# Altium schematic symbol library EM411-202401-RMC001-000-20240213-T10.SchLib: 60 symbols
Pins are listed as number, name and electrical type; pins without a type are passive.

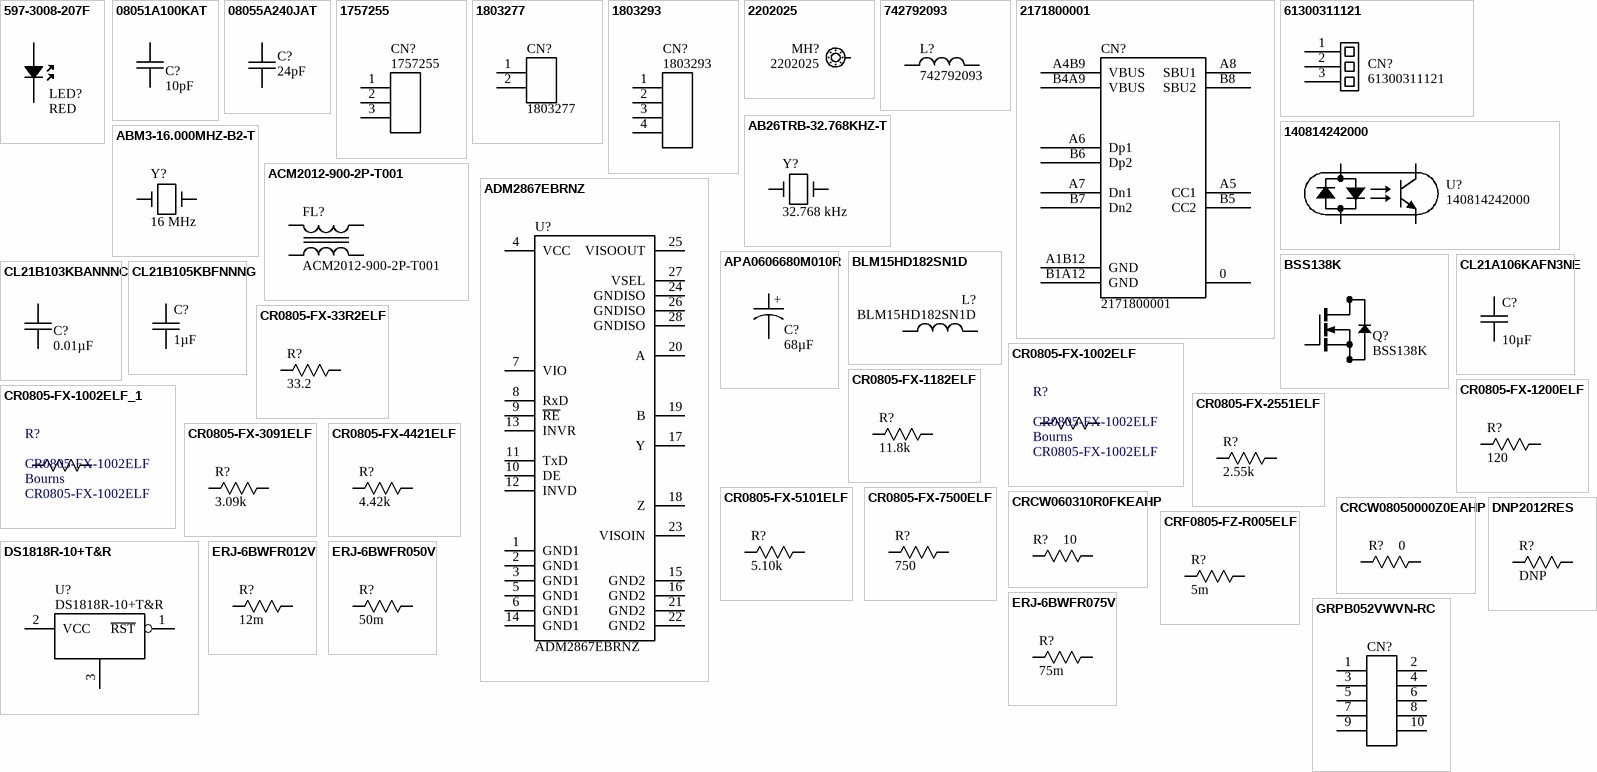
[diagram p0: symbols 597-3008-207F to GRPB052VWVN-RC]

## 597-3008-207F
designator LED?, comment RED
Micro LED, 597 Series, Red, SMD LED; PartNumber: 597-3008-207F; Manufacturer: Dialight Corporation
footprint LEDM3228X19N (Molded LED, 2-Leads, Body 3.20x2.80mm, IPC Medium Density)
pins: A, K

## 08051A100KAT
designator C?, comment 10pF
10pF/100V/±10% C0G (NP0) Ceramic Chip Capacitor; Manufacturer: Kyocera/AVX; PartNumber: 08051A100KAT
footprint CAPC2012X09N (Chip Capacitor, 2-Leads, Body 2.00x1.25mm, IPC Medium Density)
pins: 1, 2
1 alternate drawing of the same symbol

## 08055A240JAT
designator C?, comment 24pF
24pF/50V/±5% C0G (NP0) Ceramic Chip Capacitor; Manufacturer: Kyocera/AVX; PartNumber: 08055A240JAT
footprint CAPC2012X09N (Chip Capacitor, 2-Leads, Body 2.00x1.25mm, IPC Medium Density)
pins: 1, 2
1 alternate drawing of the same symbol

## 1757255
designator CN?
MSTBA 2,5/3-G-5,08 Pluggable Terminal Block 3 Pos 5.08mm pitch Through Hole Header; Manufacturer: Phoenix Contact; PartNumber: 1757255
footprint PHOENIX_1757255 (PCB header - MSTBA 2,5/ 3-G-5,08)
pins: 1, 2, 3

## 1803277
designator CN?
MC 1,5/2G-3,81 Pluggable Terminal Block 2 Pos 3.81mm pitch Through Hole Header; Manufacturer: Phoenix Contact; PartNumber: 1803277
footprint PHOENIX_1803277 (PCB Header - MC 1,5/ 2-G-3,81)
pins: 1, 2

## 1803293
designator CN?
MC 1,5/4G-3,81 Pluggable Terminal Block 4 Pos 3.81mm pitch Through Hole Header; Manufacturer: Phoenix Contact; PartNumber: 1803293
footprint PHOENIX_1803293 (Footprint not found)
pins: 1, 2, 3, 4
1 alternate drawing of the same symbol

## 2202025
designator MH?
UM-BASIC/PRO PE CONTACT L1; Manufacturer: Phoenix Contact; PartNumber: 2202025
footprint PHOENIX_2202025 (PE Contact Level 1)
pins: 0

## 742792093
designator L?
Multilayer SMD Ferrite; Manufacturer: Wurth Elektronik; PartNumber: 742792093
footprint INDC2012X11N (Chip Inductor, 2-Leads, Body 2.00x1.20mm, IPC Medium Density)
pins: 1, 2

## 2171800001
designator CN?
USB-C Receptacle, Right-Angle, Surface Mount, Top Mount, Center Height 5.9mm, Single Row, 16 Circuits; Manufacturer: Molex; PartNumber: 2171800001
footprint MOLEX_2171800001
pins: 0, A1B12 GND, A4B9 VBUS, A5 CC1, A6 Dp1, A7 Dn1, A8 SBU1, B1A12 GND, B4A9 VBUS, B5 CC2, B6 Dp2, B7 Dn2, B8 SBU2

## 61300311121
designator CN?
Connector Header Through Hole 3 position 0.100" (2.54mm); Manufacturer: Wurth Elektronik; PartNumber: 61300311121
footprint WURTH_61300311121
pins: 1, 2, 3
3 alternate drawings of the same symbol

## 140814242000
designator U?
WL-OCPT Optocoupler Phototransistor; Manufacturer: Wurth Elektronik; PartNumber: 140814242000
footprint WURTH_140814242000 (Optocoupler Phototransistor, body 6.5x4.58mm)
pins: 1 A, 2 K, 3 E, 4 C

## AB26TRB-32.768KHZ-T
designator Y?, comment 32.768 kHz
32.768 kHz Radial Can Crystal; PartNumber: AB26TRB-32.768KHZ-T; Manufacturer: Abracon Corporation
footprint ABRACON_AB26TRB (Low Frequency Reflowable Cylindrical Watch Crystal)
pins: 1, 2

## ABM3-16.000MHZ-B2-T
designator Y?, comment 16 MHz
16 MHz Miniature Ceramic SMD Crystal; PartNumber: ABM3-16.000MHZ-B2-T; Manufacturer: Abracon Corporation
footprint ABRACON_ABM3 (Ceramic SMD Crystal)
pins: 1, 2

## ACM2012-900-2P-T001
designator FL?
Common Mode Filter; Manufacturer: TDK; PartNumber: ACM2012-900-2P-T001
footprint LITTELFUSE_ACM2012-900-2P-T001 (Common Mode Choke)
pins: 1, 2, 3, 4

## ADM2867EBRNZ
designator U?
5.7 kV RMS Signal and Power Isolated RS-485 Transceiver with ±15 kV IEC ESD; Manufacturer: Analog Devices, Inc.; PartNumber: ADM2867EBRNZ
footprint SOP65P1030X265-28N (SOP, 28-Leads, Body 10.30x7.50mm, Pitch 0.65mm, IPC Medium Density)
pins: 1 GND1 (power), 2 GND1 (power), 3 GND1 (power), 4 VCC, 5 GND1 (power), 6 GND1 (power), 7 VIO, 8 RxD, 9 ~{RE}, 10 DE, 11 TxD, 12 INVD, 13 INVR, 14 GND1 (power), 15 GND2, 16 GND2, 17 Y, 18 Z, 19 B, 20 A, 21 GND2, 22 GND2, 23 VISOIN, 24 GNDISO, 25 VISOOUT, 26 GNDISO, 27 VSEL, 28 GNDISO

## APA0606680M010R
designator C?, comment 68µF
68µF/10V/20% SMD Aluminum Conductive Polymer Electrolytic Capacitor; Manufacturer: AVX; PartNumber: APA0606680M010R
footprint CAPAE7366X60M (Aluminum Electrolytic Capacitor, Body 6.60x6.60x6.00mm, IPC Low Density)
pins: 1, 2
text: +

## BLM15HD182SN1D
designator L?
GHz Noise Suppression Chip Ferrite Bead; Manufacturer: Murata Electronics; PartNumber: BLM15HD182SN1D
footprint INDC1005X06N (Chip Inductor, 2-Leads, Body 1.00x0.50mm, IPC Medium Density)
pins: 1, 2

## BSS138K
designator Q?
N-Channel Logic Level Enhancement Mode Field Effect Transistor; Manufacturer: Onsemi; PartNumber: BSS138K
footprint SOT95P237X111-3N (SOT23, 3-Leads, Body 2.92x2.37mm, Pitch 0.95mm, IPC Medium Density)
pins: 1 G "Gate", 2 S "Source", 3 D "Drain"

## CL21A106KAFN3NE
designator C?, comment 10µF
10µF/25V 10% X5R Multi-Layer Ceramic Capacitor; Manufacturer: Samsung Electro-Mechanics; PartNumber: CL21A106KAFN3NE
footprint CAPC2012X14N (Chip Capacitor, 2-Leads, Body 2.00x1.25mm, IPC Medium Density)
pins: 1, 2

## CL21B103KBANNNC
designator C?, comment 0.01µF
0.01µF/50V/±10% X7R Ceramic Chip Capacitor; Manufacturer: Samsung Electro-Mechanics; PartNumber: CL21B103KBANNNC
footprint CAPC2012X08N (Chip Capacitor, 2-Leads, Body 2.00x1.25mm, IPC Medium Density)
pins: 1, 2
1 alternate drawing of the same symbol

## CL21B105KBFNNNG
designator C?, comment 1µF
1µF/50V/±10% X7R Ceramic Chip Capacitor; Manufacturer: Samsung Electro-Mechanics; PartNumber: CL21B105KBFNNNG
footprint CAPC2012X14N (Chip Capacitor, 2-Leads, Body 2.00x1.25mm, IPC Medium Density)
pins: 1, 2
1 alternate drawing of the same symbol

## CR0805-FX-33R2ELF
designator R?, comment 33.2
33.2, 1%, 0.125W Thick Film Chip Resistor; Manufacturer: Bourns; PartNumber: CR0805-FX-33R2ELF
footprint RESC2012X06N (Chip Resistor, 2-Leads, Body 2.00x1.25mm, IPC Medium Density)
pins: 1, 2

## CR0805-FX-1002ELF
designator R?  Manufacturer: Bourns
10k , 1% , 0,125W Thick Film Chip Resistor; PartNumber: CR0805-FX-1002ELF
pins: 1, 2

## CR0805-FX-1002ELF_1
designator R?, comment CR0805-FX-1002ELF  Manufacturer: Bourns
10k , 1% , 0,125W Thick Film Chip Resistor; PartNumber: CR0805-FX-1002ELF
pins: 1, 2

## CR0805-FX-1182ELF
designator R?, comment 11.8k
11.8k, 1%, 0.125W Thick Film Chip Resistor; Manufacturer: Bourns; PartNumber: CR0805-FX-1182ELF
footprint RESC2012X06N (Chip Resistor, 2-Leads, Body 2.00x1.25mm, IPC Medium Density)
pins: 1, 2

## CR0805-FX-1200ELF
designator R?, comment 120
120, 1%, 0.125W Thick Film Chip Resistor; Manufacturer: Bourns; PartNumber: CR0805-FX-1200ELF
footprint RESC2012X06N (Chip Resistor, 2-Leads, Body 2.00x1.25mm, IPC Medium Density)
pins: 1, 2

## CR0805-FX-2551ELF
designator R?, comment 2.55k
2.55k, 1%, 0.125W Thick Film Chip Resistor; Manufacturer: Bourns; PartNumber: CR0805-FX-2551ELF
footprint RESC2012X06N (Chip Resistor, 2-Leads, Body 2.00x1.25mm, IPC Medium Density)
pins: 1, 2

## CR0805-FX-3091ELF
designator R?, comment 3.09k
3.09k, 1%, 0.125W Thick Film Chip Resistor; Manufacturer: Bourns; PartNumber: CR0805-FX-3091ELF
footprint RESC2012X06N (Chip Resistor, 2-Leads, Body 2.00x1.25mm, IPC Medium Density)
pins: 1, 2

## CR0805-FX-4421ELF
designator R?, comment 4.42k
4.42k, 1%, 0.125W Thick Film Chip Resistor; Manufacturer: Bourns; PartNumber: CR0805-FX-4421ELF
footprint RESC2012X06N (Chip Resistor, 2-Leads, Body 2.00x1.25mm, IPC Medium Density)
pins: 1, 2

## CR0805-FX-5101ELF
designator R?, comment 5.10k
5.10k, 1%, 0.125W Thick Film Chip Resistor; Manufacturer: Bourns; PartNumber: CR0805-FX-4421ELF
footprint RESC2012X06N (Chip Resistor, 2-Leads, Body 2.00x1.25mm, IPC Medium Density)
pins: 1, 2

## CR0805-FX-7500ELF
designator R?, comment 750
750, 1%, 0.125W Thick Film Chip Resistor; Manufacturer: Bourns; PartNumber: CR0805-FX-7500ELF
footprint RESC2012X06N (Chip Resistor, 2-Leads, Body 2.00x1.25mm, IPC Medium Density)
pins: 1, 2

## CRCW060310R0FKEAHP
designator R?, comment 10
10, 1%, 0.33W Pulse Proof, High Power Thick Film Chip Resistor; Manufacturer: Vishay Intertechnology; PartNumber: CRCW060310R0FKEAHP
footprint RESC1608X06N (Chip Resistor, 2-Leads, Body 1.60x0.85mm, IPC Medium Density)
pins: 1, 2

## CRCW08050000Z0EAHP
designator R?, comment 0
0, Jumper, Pulse Proof, High Power Thick Film Chip Resistor; Manufacturer: Vishay Intertechnology; PartNumber: CRCW08050000Z0EAHP
footprint VISHAY_RESC2012X06N (Chip Resistor, 2-Leads, Body 2.00x1.25mm, IPC Medium Density)
pins: 1, 2

## CRF0805-FZ-R005ELF
designator R?, comment 5m
5m, 1%, 0.5W Thick Film Chip Resistor; Manufacturer: Bourns; PartNumber: CRF0805-FZ-R005ELF
footprint RESC2012X08N (Chip Resistor, 2-Leads, Body 2.00x1.25mm, IPC Medium Density)
footprint RESC2012X08N (Chip Resistor, 2-Leads, Body 2.00x1.25mm, IPC Medium Density)
pins: 1, 2

## DNP2012RES
designator R?, comment DNP  (no BOM)
Placeholder for 2012 Resistor; Manufacturer: Confederation College; PartNumber: DNP2012RES
footprint RESC2012X06N (Chip Resistor, 2-Leads, Body 2.00x1.25mm, IPC Medium Density)
pins: 1, 2

## DS1818R-10+T&R
designator U?
3.3 V EconoReset with Pushbutton; Manufacturer: Maxim Integrated; PartNumber: DS1818R-10+T&R
footprint SOT95P237X112-3N (SOT23, 3-Leads, Body 2.92x2.37mm, Pitch 0.95mm, IPC Medium Density)
pins: 1 ~{RST} (oc), 2 VCC (power), 3 GND (power)

## ERJ-6BWFR012V
designator R?, comment 12m
12m, 1%, 0.5W Thick Film Chip Resistor; Manufacturer: Panasonic; PartNumber: ERJ-6BWFR012V
footprint RESC2012X08N (Chip Resistor, 2-Leads, Body 2.00x1.25mm, IPC Medium Density)
pins: 1, 2

## ERJ-6BWFR050V
designator R?, comment 50m
50m, 1%, 0.5W Thick Film Chip Resistor; Manufacturer: Panasonic; PartNumber: ERJ-6BWFR050V
footprint RESC2012X08N (Chip Resistor, 2-Leads, Body 2.00x1.25mm, IPC Medium Density)
pins: 1, 2

## ERJ-6BWFR075V
designator R?, comment 75m
75m, 1%, 0.5W Thick Film Chip Resistor; Manufacturer: Panasonic; PartNumber: ERJ-6BWFR075V
footprint RESC2012X08N (Chip Resistor, 2-Leads, Body 2.00x1.25mm, IPC Medium Density)
pins: 1, 2

## GRPB052VWVN-RC
designator CN?  (value not drawn)
.050"[1.27mm] Contact Centers, Male Header; Manufacturer: Sullins Connector Solutions, Inc.; PartNumber: GRPB052VWVN-RC
footprint SULLINS_GRPB052VWVN-RC (CONN HEADER VERT 10POS 1.27MM)
pins: 1, 2, 3, 4, 5, 6, 7, 8, 9, 10

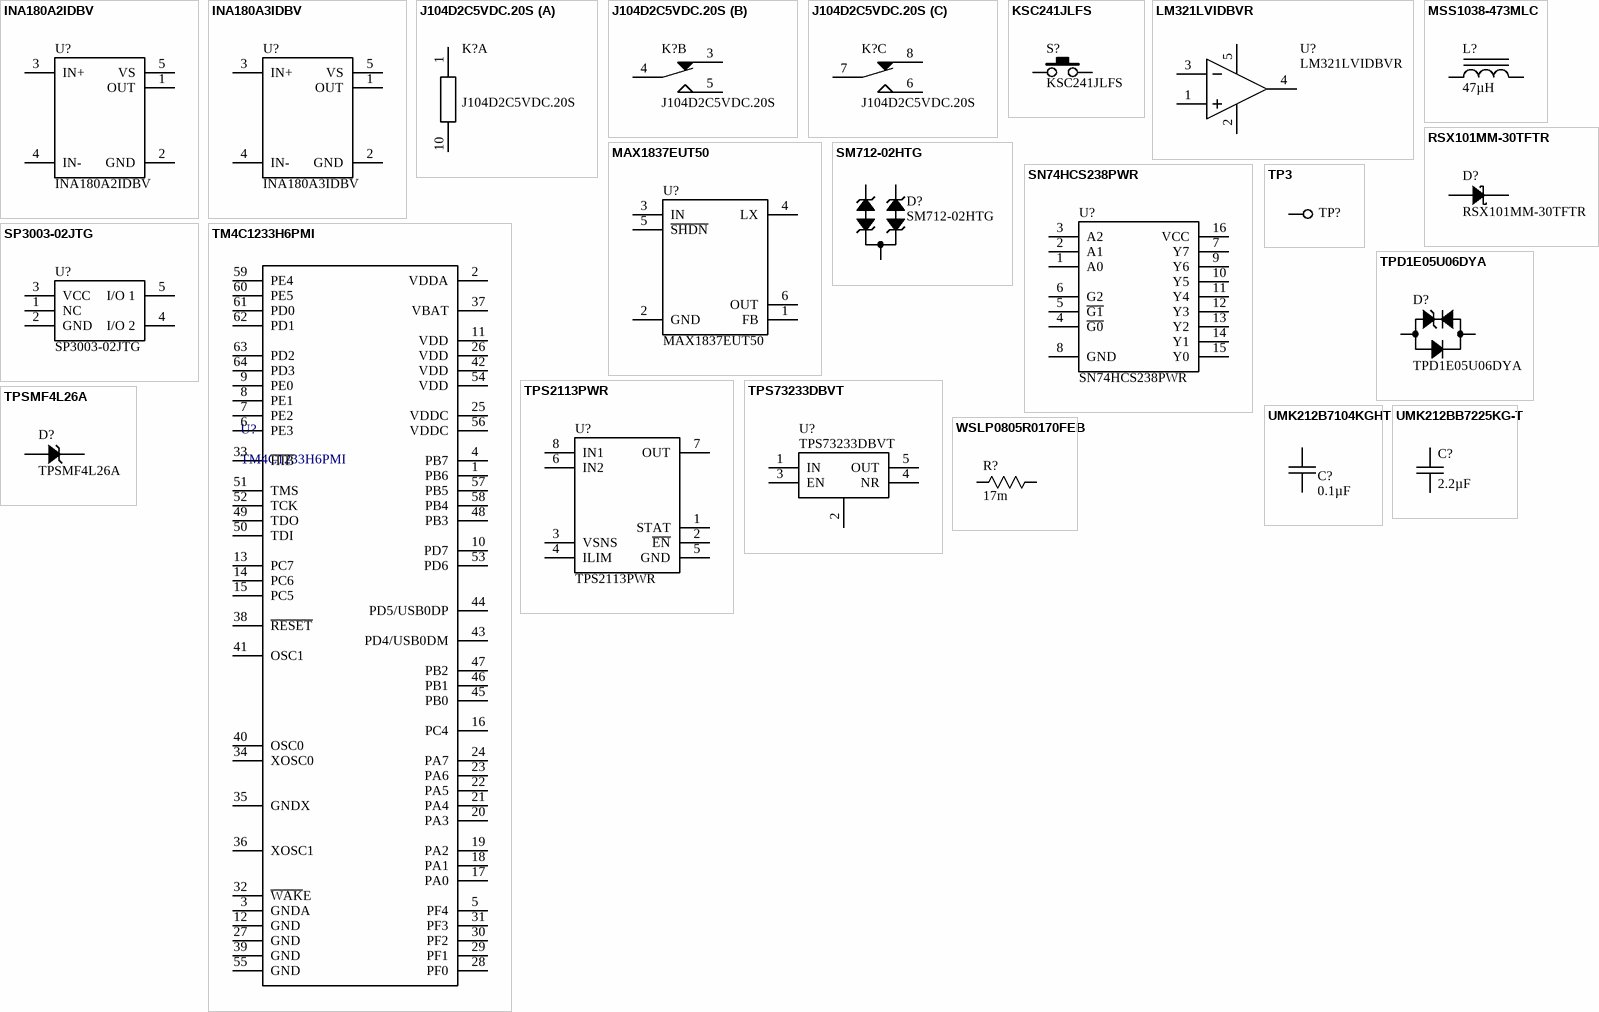
[diagram p1: symbols INA180A2IDBV to WSLP0805R0170FEB]

## INA180A2IDBV
designator U?
Voltage Output, Current-Sense Amplifiers, Gain 50; Manufacturer: Texas Instruments; PartNumber: INA180A2IDBV
footprint SOT95P280X145-5N (SOT23, 5-Leads, Body 2.90x2.80mm, Pitch 0.95mm, IPC Medium Density)
pins: 1 OUT, 2 GND, 3 IN+, 4 IN-, 5 VS

## INA180A3IDBV
designator U?
Voltage Output, Current-Sense Amplifiers, Gain 100; Manufacturer: Texas Instruments; PartNumber: INA180A3IDBV
footprint SOT95P280X145-5N (SOT23, 5-Leads, Body 2.90x2.80mm, Pitch 0.95mm, IPC Medium Density)
pins: 1 OUT, 2 GND, 3 IN+, 4 IN-, 5 VS

## J104D2C5VDC.20S
designator K?
J104D Series Dual Form C 5V, 2A PCB Relay; Manufacturer: Circuit Interrupter Technology; PartNumber: J104D2C5VDC.20S
footprint CIT_J104D (Dual Form C Signal Relay)
part A pins: 1, 10
part B pins: 3, 4, 5
part C pins: 6, 7, 8
1 alternate drawing of the same symbol

## KSC241JLFS
designator S?
KSC Series Sealed Tact Switch for SMT; Manufacturer: C&K Components; PartNumber: KSC241JLFS
footprint CK_KSC241JLFS (KSC2 Series Sealed Tact Switch for SMT)
pins: 1, 2

## LM321LVIDBVR
designator U?
Industry Standard, Low Voltage Operational Amplifier; Manufacturer: Texas Instruments; PartNumber: LM321LVIDBVR
footprint SOT95P280X145-5N (SOT23, 5-Leads, Body 2.90x2.80mm, Pitch 0.95mm, IPC Medium Density)
pins: 1 IN+, 2 V- (power), 3 IN-, 4 OUT, 5 V+ (power)

## MAX1837EUT50
designator U?
24V Internal Switch, 100% Duty Cycle, Step-Down Converter; Manufacturer: Maxim Integrated; PartNumber: MAX1837EUT50
footprint SOT95P280X145-6N (SOT23, 6-Leads, Body 2.90x2.80mm, Pitch 0.95mm, IPC Medium Density)
pins: 1 FB, 2 GND, 3 IN, 4 LX, 5 ~{SHDN}, 6 OUT

## MSS1038-473MLC
designator L?, comment 47µH
47µH Shielded Power Inductor; PartNumber: MSS1038-473MLC; Manufacturer: Coilcraft
footprint INDP102102X40N (Precision Wire Wound Inductor, 2-Leads, Body 10.20x10.15mm, IPC Medium Density)
pins: 1, 2

## RSX101MM-30TFTR
designator D?
Schottky Barrier Diode; Manufacturer: Rohm Semiconductor; PartNumber: RSX101MM-30TFTR
footprint SODFL350X90-2N (SODFL, 2-Leads, Body 1.60x3.50mm, IPC Medium Density)
pins: A, K

## SM712-02HTG
designator D?
SM712 Series 600W Asymmetrical TVS Diode Array; Manufacturer: Littelfuse; PartNumber: SM712-02HTG
footprint SOT95P237X112-3N (SOT23, 3-Leads, Body 2.92x2.37mm, Pitch 0.95mm, IPC Medium Density)
pins: 1, 2, 3

## SN74HCS238PWR
designator U?
3-to 8-Line Decoder/Demultiplexer with Schmitt-Trigger Inputs; Manufacturer: Texas Instruments; PartNumber: SN74HCS238PWR
footprint TSOP65P640X120-16N (TSOP, 16-Leads, Body 5.00x4.40mm, Pitch 0.65mm, IPC Medium Density)
pins: 1 A0, 2 A1, 3 A2, 4 ~{G0}, 5 ~{G1}, 6 G2, 7 Y7, 8 GND, 9 Y6, 10 Y5, 11 Y4, 12 Y3, 13 Y2, 14 Y1, 15 Y0, 16 VCC

## SP3003-02JTG
designator U?
TVS Diode Array - Low Capacitance ESD Protection; Manufacturer: Littelfuse; PartNumber: SP3003-02JTG
footprint SOT65P220X90-5N (SOT,0.65mm pitch;5 pin, 1.25mm W X 2.05mm L X 0.95mm H body)
footprint SOT65P220X110-5N (SOT23, 5-Leads, Body 2.05x2.20mm, Pitch 0.65mm, IPC Medium Density)
pins: 1 NC, 2 GND, 3 VCC, 4 I/O 2, 5 I/O 1

## TM4C1233H6PMI
designator U?
Microcontroller; Manufacturer: Texas Instruments; PartNumber: TM4C1233H6PMI
footprint TSQFP50P1200X1200X145-64N (TSQFP, 64-Leads, Body 10.00x10.00mm, Pitch 0.50mm, IPC Medium Density)
pins: 1 PB6, 2 VDDA, 3 GNDA, 4 PB7, 5 PF4, 6 PE3, 7 PE2, 8 PE1, 9 PE0, 10 PD7, 11 VDD, 12 GND, 13 PC7, 14 PC6, 15 PC5, 16 PC4, 17 PA0, 18 PA1, 19 PA2, 20 PA3, 21 PA4, 22 PA5, 23 PA6, 24 PA7, 25 VDDC, 26 VDD, 27 GND, 28 PF0, 29 PF1, 30 PF2, 31 PF3, 32 ~{WAK}E, 33 ~{HIB}, 34 XOSC0, 35 GNDX, 36 XOSC1, 37 VBAT, 38 ~{RESET}, 39 GND, 40 OSC0, 41 OSC1, 42 VDD, 43 PD4/USB0DM, 44 PD5/USB0DP, 45 PB0, 46 PB1, 47 PB2, 48 PB3, 49 TDO, 50 TDI, 51 TMS, 52 TCK, 53 PD6, 54 VDD, 55 GND, 56 VDDC, 57 PB5, 58 PB4, 59 PE4, 60 PE5, 61 PD0, 62 PD1, 63 PD2, 64 PD3

## TP3
designator TP?, comment Test Point  (value not drawn)  (no BOM)
Test Point, Surface Mount, 3 mm; Manufacturer: Confederation College; PartNumber: N/A
footprint TP100 (Surface Mount Test Point)
pins: 1

## TPD1E05U06DYA
designator D?
Single-Channel ESD Protection Diode; Manufacturer: Texas Instruments; PartNumber: TPD1E05U06DYA
footprint SODFL160X77-2N (SODFL, 2-Leads, Body 0.80x1.60mm, IPC Medium Density)
pins: A, K

## TPS2113PWR
designator U?
Autoswitching Power Mux; Manufacturer: Texas Instruments; PartNumber: TPS2113PWR
footprint TSOP65P640X120-8N (TSOP, 8-Leads, Body 3.00x4.40mm, Pitch 0.65mm, IPC Medium Density)
pins: 1 STAT, 2 ~{EN}, 3 VSNS, 4 ILIM, 5 GND, 6 IN2, 7 OUT, 8 IN1

## TPS73233DBVT
designator U?
250 mA, 3.3V Low Dropout Voltage Regulator; Manufacturer: Texas Instruments; PartNumber: TPS73233DBVT
footprint SOT95P280X145-5N (SOT23, 5-Leads, Body 2.90x2.80mm, Pitch 0.95mm, IPC Medium Density)
pins: 1 IN "Input", 2 GND "Ground", 3 EN "Enable", 4 NR "Noise Reduction", 5 OUT "Output"

## TPSMF4L26A
designator D?
TVS Diode; Manufacturer: Littelfuse; PartNumber: TPSMF4L26A
footprint SODFL370X108-2N (SODFL, 2-Leads, Body 1.85x3.70mm, IPC Medium Density)
pins: A, K

## UMK212B7104KGHT
designator C?, comment 0.1µF
0.1µF/50V/±10% X7R Ceramic Chip Capacitor; Manufacturer: Taiyo Yuden; PartNumber: UMK212B7104KGHT
footprint CAPC2012X14N (Chip Capacitor, 2-Leads, Body 2.00x1.25mm, IPC Medium Density)
pins: 1, 2

## UMK212BB7225KG-T
designator C?, comment 2.2µF
2.2µF/50V/10% Multilayer Ceramic Chip Capacitor; Manufacturer: Taiyo Yuden; PartNumber: UMK212BB7225KG-T
footprint CAPC2012X14N (Chip Capacitor, 2-Leads, Body 2.00x1.25mm, IPC Medium Density)
pins: 1, 2

## WSLP0805R0170FEB
designator R?, comment 17m
17m, 1%, 0.5W Thick Film Chip Resistor; Manufacturer: Vishay Dale; PartNumber: WSLP0805R0170FEB
footprint RESC2013X05N (Chip Resistor, 2-Leads, Body 2.03x1.32mm, IPC Medium Density)
pins: 1, 2